# Altium schematic symbol library 87233-3.SchLib: 1 symbol
Pins are listed as number, name and electrical type; pins without a type are passive.

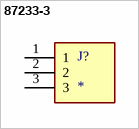
[diagram p0: symbol 87233-3]

## 87233-3
designator J?
MF: {'manufacturer': u'TE Connectivity'}; MP: 87233-3; Value: *; Price: None; Package: None; Availability: Unavailable
footprint TE_87233-3
pins: 1, 2, 3